# EAGLE library part ALD12A48 (library power_converters)
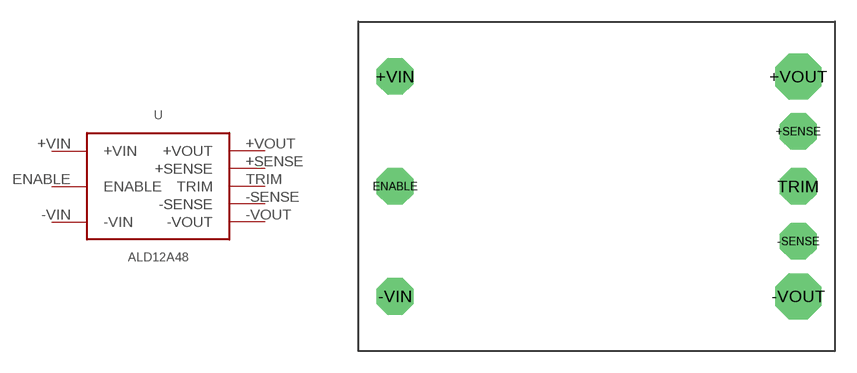
[diagram p2: symbol with the pads of ALD12A48; footprint ALD12A48]

Designator prefix -

## ALD12A48  [ALD12A48]
+SENSE  +SENSE  in
+VIN  +VIN  in
+VOUT  +VOUT  in
-SENSE  -SENSE  in
-VIN  -VIN  in
-VOUT  -VOUT  in
ENABLE  ENABLE  in
TRIM  TRIM  in

## Footprint ALD12A48 (pad centres in mm)
drill 1.143 pad 2.54 octagon: +SENSE 13.97,3.81; +VIN -13.97,7.62; -SENSE 13.97,-3.81; -VIN -13.97,-7.62; ENABLE -13.97,0; TRIM 13.97,0
drill 1.651 pad 3.175 octagon: +VOUT 13.97,7.62; -VOUT 13.97,-7.62